# EAGLE library part LOGIC,BUFFER:SY58011_(1:2,CML/PECL) (library QuantumOptics)
SY58011U -2U- 3U, 1:2 Buffer, Micrel, CML/LVPECL/RSLVPECL, Tr=60pS, 6GHz. http://www.micrel.com/_PDF/HBW/sy58011u.pdf. http://www.micrel.com/_PDF/HBW/sy58012u.pdf. http://www.micrel.com/_PDF/HBW/sy58013u.pdf.
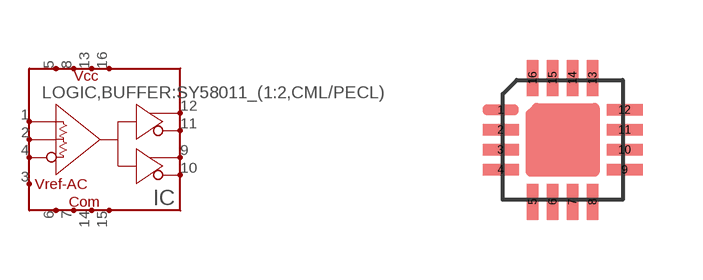
[diagram p94: symbol with the pads of MLF-16; footprint MLF-16]

Designator prefix IC

## LOGIC,BUFFER:SY58011_(1:2,CML/PECL)-MLF16  [MLF-16]
1  IN+  in
2  INT  in
3  VREF-AC  in
4  IN-  in
5  VCC1
6  COM1
7  COM2
8  VCC2
9  Q1+  out
10  Q1-  out
11  Q0-  out
12  Q0+  out
13  VCC3
14  COM3
15  COM4
16  VCC4

## Footprint MLF-16 (pad centres in mm)
MLF-16, Micro Lead Frame with 16 pins. NOTE: Must connect centre pad to bottom ground plane with at least 4 vias! Use grid of 0.5mm or 0.02". Based on Micrel SY88953L <http://www.micrel.com/_PDF/HBW/sy88953l.pdf#page=2>, http://www.micrel.com/_PDF/HBW/sy88953l.pdf#page=2
smd 0.9 x 0.29: 1 0,0; 2 0,-0.5; 3 0,-1; 4 0,-1.5; 9 3.1,-1.5; 10 3.1,-1; 11 3.1,-0.5; 12 3.1,0
smd 0.29 x 0.9: 5 0.8,-2.3; 6 1.3,-2.3; 7 1.8,-2.3; 8 2.3,-2.3; 13 2.3,0.8; 14 1.8,0.8; 15 1.3,0.8; 16 0.8,0.8